# Altium footprint library Qbot1.PcbLib: 27 footprints (part 1 of 2)
Each footprint in its own frame and in the unit in brackets; x right, y up, seen from the top. Pads: shape width x height; smd on the part's side, far side on the other; paste and mask are expansions set on the pad; w line width, h text height; cw(c..) or ccw(c..) is an arc to the next point about the centre after c.
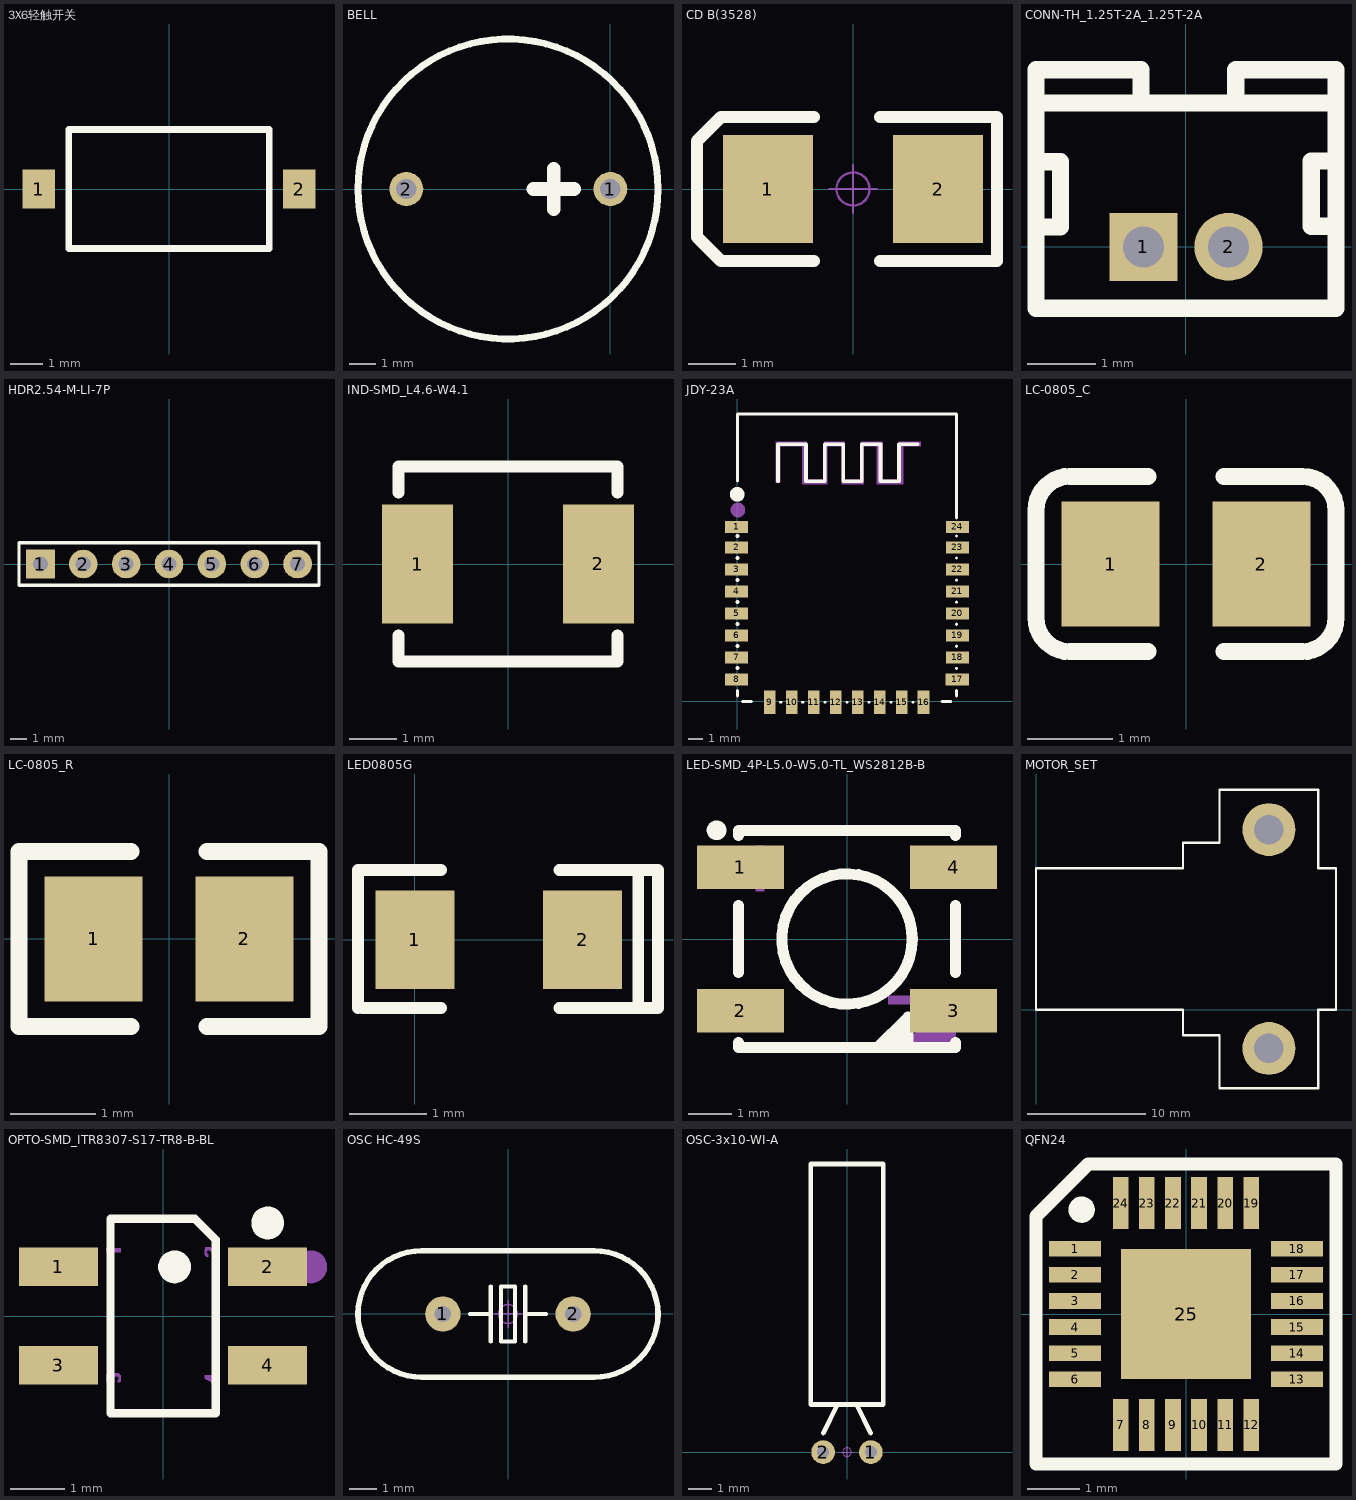
[diagram p0: the footprints below, top view; thin cyan lines are the x and y axes]

## 3X6轻触开关 [mm] "3x6x2.5mm   （蒜米工坊）"
height 2.5
pads (2):
  rect 1x1.2 smd: 1(-4,0) 2(4,0)
Top Overlay:
  lines w0.203: -3.075,-1.825 3.075,-1.825 3.075,1.825 -3.075,1.825 -3.075,-1.825
3D body "3x6x2.5mm轻触开关.STEP": height 2.5, standoff 0, extent -4,-1.825 4,1.825

## BELL [mil]
height 19.68
pads (2):
  round 50 hole 30: 1(0,0) 2(-300,0)
Top Overlay:
  circle w10: c-150.47,0 r220.47
  lines w20: -113,0 -53,0 ; -83,-30 -83,30
3D body "beep.stp": height 383.86, standoff -119.25, extent -384.31,-235.31 88.31,237.31

## CD B(3528) [mil] "长3.5mm，宽2.8mm，厚1.9mm"
height 19.68
pads (2):
  rect 75x90 smd: 1(-70.87,-0.01) 2(70.86,-0.01)
Top Overlay:
  lines w10: -32.51,-60 -110,-60 -130,-40 -130,40 -110,60 -32.51,60 ; 22.49,-60 120,-60 120,60 22.49,60
Mechanical 15:
  circle w1.97: c0,0 r13.78
  lines w1.97: -19.68,0 19.68,0 ; 0,-19.68 0,19.68
3D body "CD B(3528).STEP": height 74.84, standoff -0.3, extent -68.92,-55.12 68.91,55.11

## CONN-TH_1.25T-2A_1.25T-2A [mm]
height 0.5
pads (2):
  rect 1x1 hole 0.6: 1(-0.625,0)
  round 1 hole 0.6: 2(0.625,0)
Top Overlay:
  lines w0.254: -2.201,1.25 -1.84,1.25 -1.84,0.29 -2.16,0.29 ; -2.2,2.111 2.2,2.111 ; -0.66,2.12 -0.66,2.6 -2.2,2.6 -2.2,-0.9 2.2,-0.9 ; 0.73,2.12 0.73,2.6 2.2,2.6 ; 2.16,0.3 1.84,0.301 1.84,1.26 2.201,1.26 ; 2.203,2.598 2.203,-0.902

## HDR2.54-M-LI-7P [mm] "排母，7脚"
height 0.5
pads (7):
  rect 1.7x1.7 hole 0.9: 1(-7.62,0)
  round 1.7 hole 0.9: 2(-5.08,0) 3(-2.54,0) 4(0,0) 5(2.54,0) 6(5.08,0) 7(7.62,0)
Top Overlay:
  lines w0.2: -8.89,-1.27 -8.89,1.27 8.89,1.27 8.89,-1.27 -8.89,-1.27
3D body "HDR2.54-1P_M.STEP": height 8.5, standoff -3, extent 6.35,-1.27 8.89,1.27
3D body "HDR2.54-1P_M.STEP": height 8.5, standoff -3, extent 1.27,-1.27 3.81,1.27
3D body "HDR2.54-1P_M.STEP": height 8.5, standoff -3, extent -1.27,-1.27 1.27,1.27
3D body "HDR2.54-1P_M.STEP": height 8.5, standoff -3, extent 3.81,-1.27 6.35,1.27
3D body "HDR2.54-1P_M.STEP": height 8.5, standoff -3, extent -6.35,-1.27 -3.81,1.27
3D body "HDR2.54-1P_M.STEP": height 8.5, standoff -3, extent -8.89,-1.27 -6.35,1.27
3D body "HDR2.54-1P_M.STEP": height 8.5, standoff -3, extent -3.81,-1.27 -1.27,1.27

## IND-SMD_L4.6-W4.1 [mm]
height 0.5
pads (2):
  rect 1.5x2.5 smd: 1(-1.9,0) 2(1.9,0)
Top Overlay:
  lines w0.254: -2.3,-1.5 -2.3,-2.05 2.3,-2.05 2.3,-1.5 ; -2.3,1.5 -2.3,2.05 2.3,2.05 ; 2.3,1.5 2.3,2.049

## JDY-23A [mm] "JDY-23A"
height 0.5
pads (24):
  rect 1.6x0.8 smd: 1(-0.06,11.9) 2(-0.06,10.5) 3(-0.06,9) 4(-0.06,7.5) 5(-0.06,6) 6(-0.06,4.5) 7(-0.06,3) 17(15,1.5) 18(15.01,3) 19(15.01,4.5) 20(15.01,6) 21(15.01,7.5) 22(15.01,9) 23(15.01,10.5) 24(15.01,11.9)
  rect 1.6x0.8 smd paste+0: 8(-0.06,1.5)
  rect 0.8x1.6 smd paste+0: 9(2.2,-0.06) 10(3.7,-0.06) 11(5.2,-0.06) 12(6.7,-0.06) 13(8.2,-0.06) 14(9.7,-0.06) 15(11.2,-0.06) 16(12.7,-0.06)
Top Overlay:
  circle w0.5: c-0.011,14.121 r0.25
  lines w0.2: 0,0.36 0,0.751 ; 0,15.03 0,19.6 14.94,19.6 14.94,12.5 ; 0.36,0 0.96,0 ; 2.95,-0.06 2.96,-0.06 ; 4.453,-0.06 4.463,-0.06 ; 5.956,-0.06 5.967,-0.06 ; 7.46,-0.06 7.47,-0.06 ; 8.963,-0.06 8.973,-0.06 ; 10.466,-0.06 10.477,-0.06 ; 11.97,-0.06 11.98,-0.06 ; 13.95,0 14.55,0 ; 14.94,0.36 14.94,0.751 ; 14.94,2.25 14.94,2.26 ; 14.94,3.753 14.94,3.764 ; 14.94,5.257 14.94,5.267 ; 14.94,6.76 14.94,6.77 ; 14.94,8.263 14.94,8.274 ; 14.94,9.767 14.94,9.777 ; 14.94,11.27 14.94,11.28
  lines w0.254: 0,2.26 0,2.27 ; 0,3.763 0,3.773 ; 0,5.267 0,5.277 ; 0,6.77 0,6.78 ; 0,8.273 0,8.283 ; 0,9.777 0,9.787 ; 0,11.28 0,11.29 ; 2.774,15.005 2.774,17.545 4.679,17.545 4.679,15.005 5.949,15.005 5.949,17.545 7.219,17.545 7.219,15.005 8.489,15.005 8.489,17.545 9.759,17.545 9.759,15.005 11.029,15.005 11.029,17.545 12.299,17.545
Mechanical 15:
  circle w0.5: c0.035,13.052 r0.25
  region: 2.619,15.015 2.619,17.715 4.719,17.715 4.719,15.115 5.919,15.115 5.919,17.715 7.319,17.715 7.319,15.115 8.419,15.115 8.419,17.715 9.919,17.715 9.919,15.115 11.019,15.115 11.019,17.715 12.519,17.715 12.519,17.415 11.319,17.415 11.319,14.815 9.519,14.815 9.519,17.415 8.619,17.415 8.619,14.815 7.119,14.815 7.119,17.415 6.119,17.415 6.119,14.815 4.419,14.815 4.419,17.415 2.919,17.415 2.919,14.915 2.619,14.915

## LC-0805_C [mm]
height 0.5
pads (2):
  rect 1.16x1.47 smd: 1(-0.89,0) 2(0.89,0)
Top Overlay:
  lines w0.2: -0.45,-1.035 -1.37,-1.035 cw(c-1.37,-0.635) -1.77,-0.635 -1.77,0.635 cw(c-1.37,0.635) -1.37,1.035 -0.45,1.035 ; 0.45,-1.035 1.37,-1.035 ccw(c1.37,-0.635) 1.77,-0.635 1.77,0.635 ccw(c1.37,0.635) 1.37,1.035 0.45,1.035
3D body "User Library-0805 SMD Capacitor.STEP": height 0.77, standoff -0.01, extent -0.999,-0.625 1.001,0.625

## LC-0805_R [mm]
height 0.5
pads (2):
  rect 1.16x1.47 smd: 1(-0.89,0) 2(0.89,0)
Top Overlay:
  lines w0.2: -0.45,-1.035 -1.77,-1.035 -1.77,1.035 -0.45,1.035 ; 0.45,-1.035 1.77,-1.035 1.77,1.035 0.45,1.035
3D body "User Library-R_0805.STEP": height 0.49, standoff -0.01, extent -0.997,-0.625 1.003,0.625

## LED0805G [mil]
height 19.68
pads (2):
  rect 40x50 smd: 1(0,0) 2(85,0)
Top Overlay:
  lines w5.98: 113.15,-34.61 123.15,-34.61 ; 113.15,35.39 123.15,35.39
  lines w6: -28.86,-34.61 -28.86,35.39 13.15,35.39 ; -26.85,-34.61 13.15,-34.61 ; 73.15,-34.61 113.15,-34.61 113.15,35.39 73.15,35.39 ; 123.15,-34.61 123.15,35.39
3D body "User Library-User Library-led_0805 GRE.STEP": height 43.31, standoff 0, extent 3.39,-24.21 82.91,25

## LED-SMD_4P-L5.0-W5.0-TL_WS2812B-B [mm]
height 0.5
pads (4):
  rect 2x1 smd: 1(-2.45,1.65) 2(-2.45,-1.65) 3(2.45,-1.65) 4(2.45,1.65)
Top Overlay:
  circle w0.254: c-3,2.5 r0.1
  circle w0.254: c0.001,0 r1.5
  region: 1.4,-1.8 1.4,-2.4 1.3,-2.5 0.7,-2.5
  lines w0.254: -2.5,-2.38 -2.5,-2.5 2.5,-2.5 2.5,-2.38 ; -2.5,-0.77 -2.5,0.77 ; -2.5,2.38 -2.5,2.5 2.5,2.5 2.5,2.38 ; 2.5,-0.77 2.5,0.77 ; 0.7,-2.5 1.4,-1.8 1.4,-2.5 0.7,-2.5
Mechanical 15:
  circle w0.24: c-2.8,1.9 r0.12
  region: -2.1,1.1 -2.1,2.15 -1.9,2.15 -1.9,1.1
  region: 2,-1.5 0.95,-1.5 0.95,-1.3 2,-1.3
  region: -2.525,1.725 -1.475,1.725 -1.475,1.525 -2.525,1.525
  region: 2.5,-1.3 2.5,-2.5 1.2,-2.5

## MOTOR_SET [mm]
pads (2):
  round 4.5 hole 2.5: ""(19.8,-3.3) ""(19.8,15.3)
Top Overlay:
  lines w0.2: 0,0 12.5,0 12.5,-2.175 15.6,-2.175 15.6,-6.7 24,-6.7 24,0 25.5,0 25.5,12 24,12 24,18.7 15.6,18.7 15.6,14.175 12.5,14.175 12.5,12 0,12 0,0

## OPTO-SMD_ITR8307-S17-TR8-B-BL [mm]
height 0.5
pads (4):
  rect 1.443x0.7 smd: 1(-1.912,0.9) 2(1.912,0.9) 3(-1.912,-0.9) 4(1.912,-0.9)
Top Overlay:
  circle w0.3: c0.209,0.9 r0.15
  circle w0.3: c1.912,1.702 r0.15
  lines w0.152: -0.961,-1.776 -0.961,1.776 0.584,1.776 0.961,1.399 0.961,-1.776 -0.961,-1.776
Mechanical 15:
  drawing of 76 lines, arcs and shapes, not listed

## OSC HC-49S [mm]
height 0.5
pads (2):
  round 1.3 hole 0.6: 1(-2.4,0) 2(2.4,0)
Top Overlay:
  lines w0.152: -1.397,0 -0.635,0 ; -0.635,-1.016 -0.635,1.016 ; 0.635,-1.016 0.635,1.016 ; 0.635,0 1.397,0 ; -0.254,-1.016 0.254,-1.016 0.254,1.016 -0.254,1.016 -0.254,-1.016
  lines w0.203: -3.175,2.325 ccw(c-3.2,0) -3.173,-2.325 3.175,-2.325 ccw(c3.2,0) 3.173,2.325 -3.175,2.325
Mechanical 15:
  circle w0.05: c0,0 r0.35
  lines w0.05: -0.5,0 0.5,0 ; 0,-0.5 0,0.5
3D body "OSC HC-49S.STEP": height 4.13, standoff -3.45, extent -5.525,-2.325 5.525,2.325

## OSC-3x10-WI-A [mm] "脚距：2mm"
height 0.5
pads (2):
  round 1 hole 0.5: 1(1,0) 2(-1,0)
Top Overlay:
  lines w0.2: -1,0.8 -0.4,2 ; 0.4,2 1,0.8 ; -1.524,2 1.524,2 1.524,12.1 -1.524,12.1 -1.524,2
Mechanical 15:
  circle w0.04: c0,0 r0.18
  lines w0.04: -0.254,0 0.254,0 ; 0,-0.254 0,0.254
3D body "OSC-3x10-WI.STEP": height 3.03, standoff -2.6, extent -1.5,-0.179 1.5,12

## QFN24 [mm] "4mm*4mm（蒜米工坊）"
height 0.5
pads (25):
  rect 1x0.3 smd: 1(-2.125,1.25) 2(-2.125,0.75) 3(-2.125,0.25) 4(-2.125,-0.25) 5(-2.125,-0.75) 6(-2.125,-1.25) 13(2.125,-1.25) 14(2.125,-0.75) 15(2.125,-0.25) 16(2.125,0.25) 17(2.125,0.75) 18(2.125,1.25)
  rect 0.3x1 smd: 7(-1.25,-2.125) 8(-0.75,-2.125) 9(-0.25,-2.125) 10(0.25,-2.125) 11(0.75,-2.125) 12(1.25,-2.125) 19(1.25,2.125) 20(0.75,2.125) 21(0.25,2.125) 22(-0.25,2.125) 23(-0.75,2.125) 24(-1.25,2.125)
  rect 2.5x2.5 smd: 25(0,0)
Top Overlay:
  circle w0.254: c-2,2 r0.125
  lines w0.254: -2.875,-2.875 -2.875,1.25 -2.875,1.875 -1.875,2.875 -1.25,2.875 2.875,2.875 2.875,-2.875 -2.875,-2.875
3D body "QFN_24_4x4.STEP": height 0.9, standoff 0, extent -2.002,-2.002 2.002,2.002